# EAGLE library part JS202011SCQN (library pierre_vv)
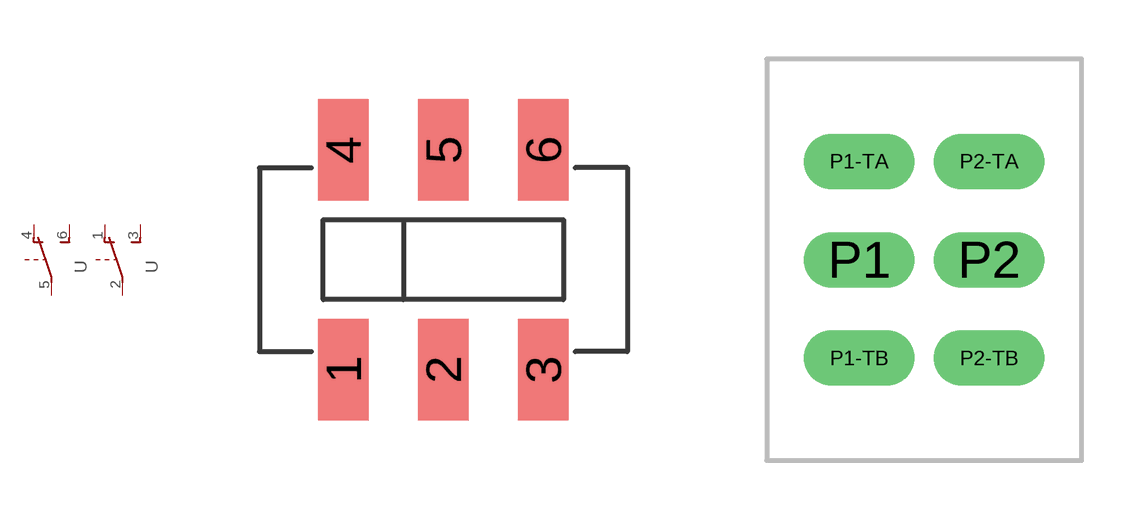
[diagram p4: symbol with the pads of JS202011SCQN; footprints JS202011SCQN, SWITCHPOWER]

Designator prefix -; gates G$1=SWITCH G$2=SWITCH

## JS202011SCQN  [JS202011SCQN]
1  G$1:O  pas
2  G$1:P  pas
3  G$1:S  pas
4  G$2:O  pas
5  G$2:P  pas
6  G$2:S  pas

## JS202011SCQNPIN  [SWITCHPOWER]
P1  G$1:P  pas
P1-TA  G$1:O  pas
P1-TB  G$1:S  pas
P2  G$2:P  pas
P2-TA  G$2:O  pas
P2-TB  G$2:S  pas

## Footprint JS202011SCQN (pad centres in mm)
smd 1.27 x 2.54: 1 -2.5,-2.75; 2 0,-2.75; 3 2.5,-2.75; 4 -2.5,2.75; 5 0,2.75; 6 2.5,2.75

## Footprint SWITCHPOWER (pad centres in mm)
drill 0.9 long: P1 -1.65,0; P1-TA -1.65,2.5; P1-TB -1.65,-2.5; P2 1.65,0; P2-TA 1.65,2.5; P2-TB 1.65,-2.5